# Altium footprint library ECE315_S20.PcbLib: 20 footprints (part 1 of 2)
Each footprint in its own frame and in the unit in brackets; x right, y up, seen from the top. Pads: shape width x height; smd on the part's side, far side on the other; paste and mask are expansions set on the pad; w line width, h text height; cw(c..) or ccw(c..) is an arc to the next point about the centre after c.
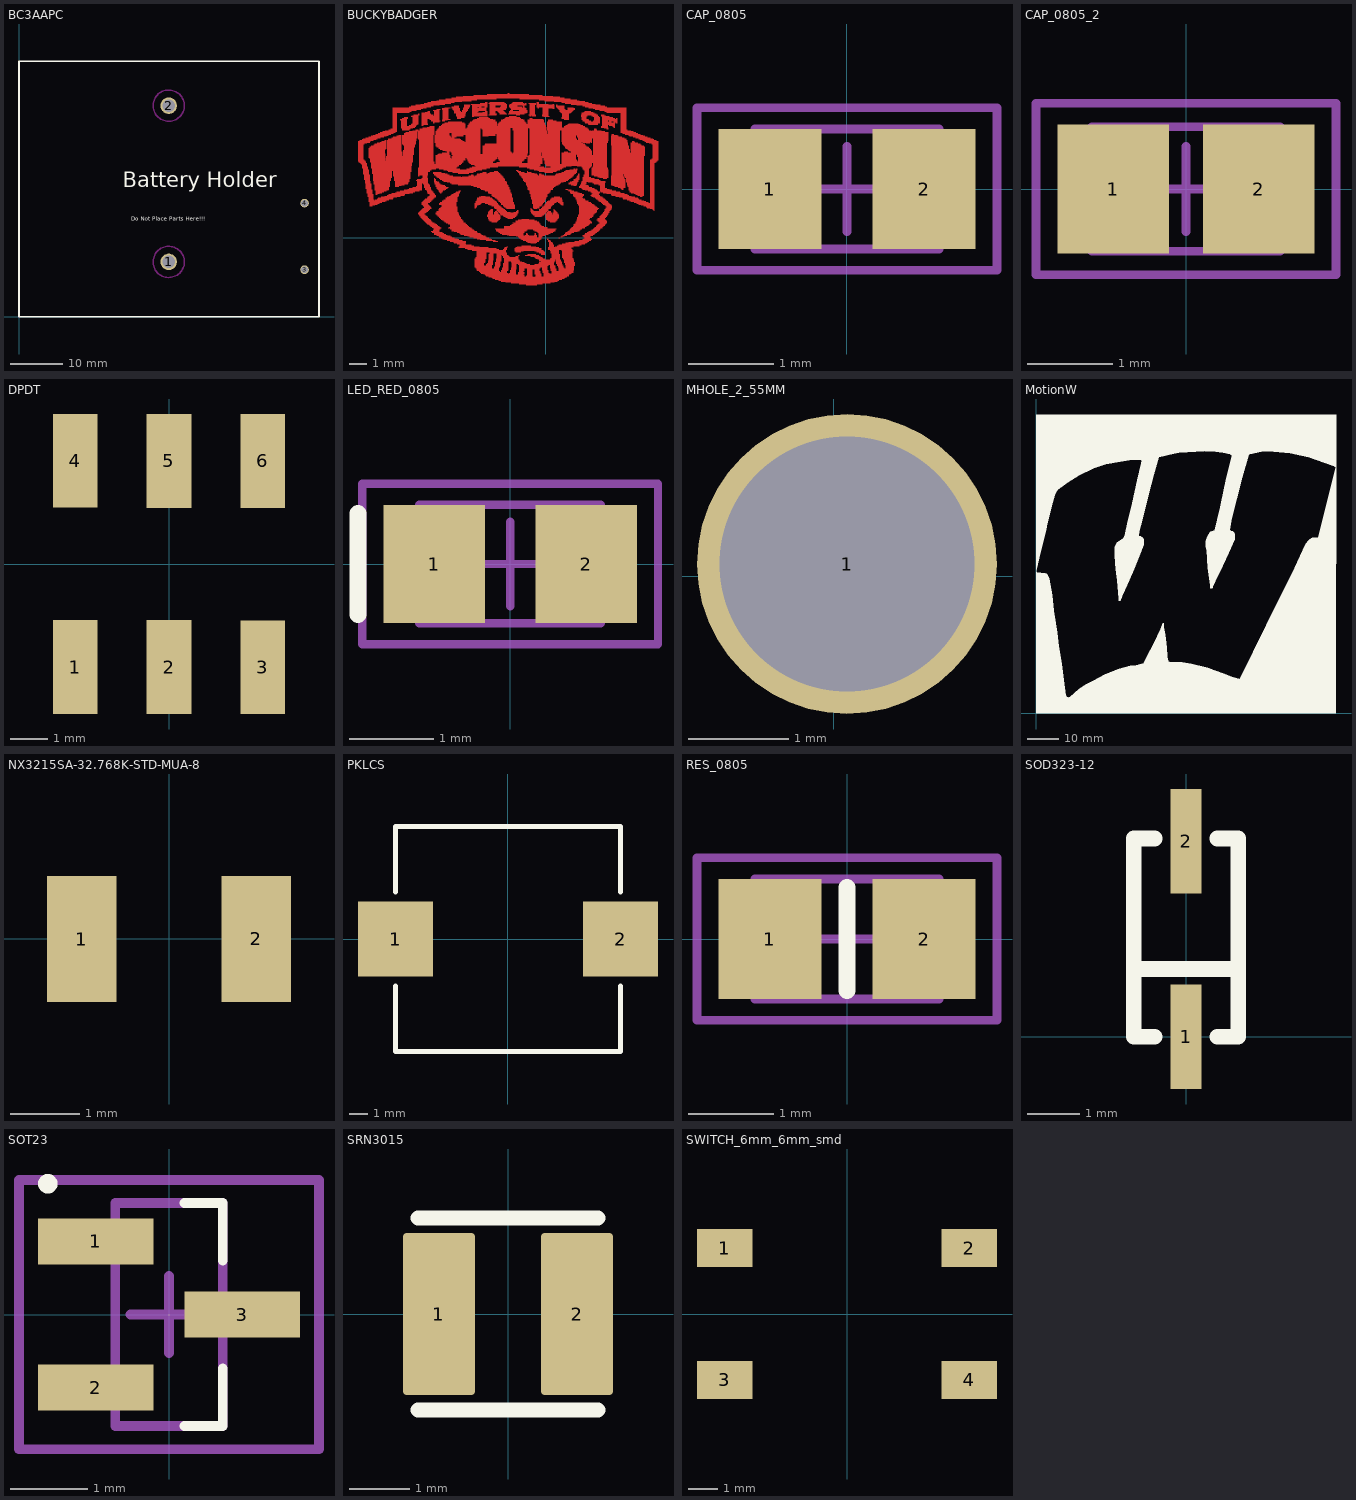
[diagram p0: the footprints below, top view; thin cyan lines are the x and y axes]

## BC3AAPC [mm]
pads (4):
  round 3.175 hole 2.37: 1(28.75,10.5) 2(28.75,40.5)
  round 1.651 hole 1.27: 3(54.82,9) 4(54.82,21.8)
Top Layer keep-out:
  circle w0.254: c28.75,40.5 r3
  circle w0.254: c28.75,10.5 r3
Top Overlay:
  lines w0.304: 0,0 57.6,0 57.6,49 0,49 0,0
  text "Battery Holder" at 19.939,23.876 h5
  text "Do Not Place Parts Here!!!" at 21.59,18.161 h1.27
3D body "BC3AAPC.STEP": height 16.51, standoff -9.14, extent 0.457,0.762 57.658,49.962

## BUCKYBADGER [mm]
Top Layer:
  drawing of 2083 lines, arcs and shapes, not listed
  text "ECE 315 / S20" at -6.35,-5.969 h1.02
Top Solder:
  drawing of 2083 lines, arcs and shapes, not listed
  text "ECE 315 / S20" at -6.35,-5.969 h1.02

## CAP_0805 [mm]
pads (2):
  rect 1.2x1.4 smd: 1(-0.9,0) 2(0.9,0)
Mechanical 13:
  lines w0.1: -1.075,-0.7 -1.075,0.7 1.075,0.7 1.075,-0.7 -1.075,-0.7
Mechanical 15:
  lines w0.1: -0.5,0 0.5,0 ; 0,-0.5 0,0.5 ; -1.75,-0.95 -1.75,0.95 1.75,0.95 1.75,-0.95 -1.75,-0.95
3D body: height 0.7, standoff 0, extent -1.075,-0.7 1.075,0.7

## CAP_0805_2 [mm]
pads (2):
  rect 1.3x1.5 smd: 1(-0.85,0) 2(0.85,0)
Mechanical 13:
  lines w0.1: -1.1,-0.725 1.1,-0.725 1.1,0.725 -1.1,0.725 -1.1,-0.725
Mechanical 15:
  lines w0.1: -0.5,0 0.5,0 ; 0,-0.5 0,0.5 ; -1.75,-1 1.75,-1 1.75,1 -1.75,1 -1.75,-1
3D body: height 1.1, standoff 0, extent -1.1,-0.725 1.1,0.725

## DPDT [mm]
pads (6):
  rect 1.2x2.5 smd: 1(-2.5,-2.75) 2(0,-2.75) 3(2.5,-2.75) 4(-2.5,2.75) 5(0,2.75) 6(2.5,2.75)

## LED_RED_0805 [mm]
pads (2):
  rect 1.2x1.4 smd: 1(-0.9,0) 2(0.9,0)
Top Overlay:
  lines w0.2: -1.8,-0.6 -1.8,0.6
Mechanical 13:
  lines w0.1: -1.075,-0.7 1.075,-0.7 1.075,0.7 -1.075,0.7 -1.075,-0.7
Mechanical 15:
  lines w0.1: -0.5,0 0.5,0 ; 0,-0.5 0,0.5 ; -1.75,-0.95 1.75,-0.95 1.75,0.95 -1.75,0.95 -1.75,-0.95
3D body: height 0.8, standoff 0, extent -1.075,-0.7 1.075,0.7

## MHOLE_2_55MM [mm]
pads (1):
  round 3 / inner round 4.572 / far side round 4.318 hole 2.55: 1(0.131,0.123)

## MotionW [mm]
Top Overlay:
  region: 5 vertices and 1 holes, not listed, extent 0,0 96.462,96.038

## NX3215SA-32.768K-STD-MUA-8 [mm]
pads (2):
  rect 1x1.8 smd: 1(-1.25,0) 2(1.25,0)

## PKLCS [mm]
pads (2):
  rect 4x4 smd: 1(-6,0) 2(6,0)
Top Overlay:
  lines w0.254: -6,-2.5 -6,-6 6,-6 6,-2.5 ; -6,2.5 -6,6 6,6 6,2.5

## RES_0805 [mm]
pads (2):
  rect 1.2x1.4 smd: 1(-0.9,0) 2(0.9,0)
Top Overlay:
  lines w0.2: 0,-0.6 0,0.6
Mechanical 13:
  lines w0.1: -1.075,-0.7 -1.075,0.7 1.075,0.7 1.075,-0.7 -1.075,-0.7
Mechanical 15:
  lines w0.1: -0.5,0 0.5,0 ; 0,-0.5 0,0.5 ; -1.75,-0.95 -1.75,0.95 1.75,0.95 1.75,-0.95 -1.75,-0.95
3D body: height 0.65, standoff 0, extent -1.075,-0.7 1.075,0.7

## SFH11-PBPC-D05-ST-BK [mm]

## SOD323-12 [mm]
pads (2):
  rect 0.6x2 smd: 1(0,0) 2(0,3.75)
Top Overlay:
  lines w0.3: -1,1.3 1,1.3 ; -0.6,0 -1,0 -1,3.8 -0.6,3.8 ; 0.6,0 1,0 1,3.8 0.6,3.8

## SOT23 [mm]
pads (3):
  rect 1.5x0.6 smd: 1(-0.95,0.95) 2(-0.95,-0.95) 3(0.95,0)
Top Overlay:
  circle w0.127: c-1.575,1.7 r0.064
  lines w0.127: 0.2,-1.45 0.7,-1.45 0.7,-0.7 ; 0.2,1.45 0.7,1.45 0.7,0.7
Mechanical 13:
  lines w0.127: -0.7,-1.45 -0.7,1.45 0.7,1.45 0.7,-1.45 -0.7,-1.45
Mechanical 15:
  lines w0.127: -0.5,0 0.5,0 ; 0,-0.5 0,0.5 ; -1.95,-1.75 -1.95,1.75 1.95,1.75 1.95,-1.75 -1.95,-1.75
3D body "User Library-SOT23-3.STEP": height 1.3, standoff 0, extent -1.4,-1.45 1.4,1.45

## SRN3015 [mm]
pads (2):
  rrect10% 1.2x2.7 smd mask+0.102: 1(-1.15,0) 2(1.15,0)
Top Overlay:
  lines w0.254: -1.5,-1.6 1.5,-1.6 ; -1.5,1.6 1.5,1.6
3D body "User Library-Inductor SRN3015 Series.STEP": height 1.5, standoff 0, extent -1.51,-1.4 1.51,1.324

## SWITCH_6mm_6mm_smd [mm]
pads (4):
  rect 1.9x1.3 smd: 1(-4.175,2.25) 2(4.175,2.25) 3(-4.175,-2.25) 4(4.175,-2.25)
3D body "PushButton_6mmx6mm.stp": height 4.42, standoff 0.02, extent -4.955,-3.016 5.045,2.984